# EAGLE library part SN75176B (library icmi-ics)
SN75176B / MAX485 RS-485/RS-422 Transceiver Pin names R→ receiver output RE→ receiver output enable DE→ driver output enable D→ driver input enable A→ noninverting receiver input and noninverting driver output B→ inverting receiver input and inverting driver output
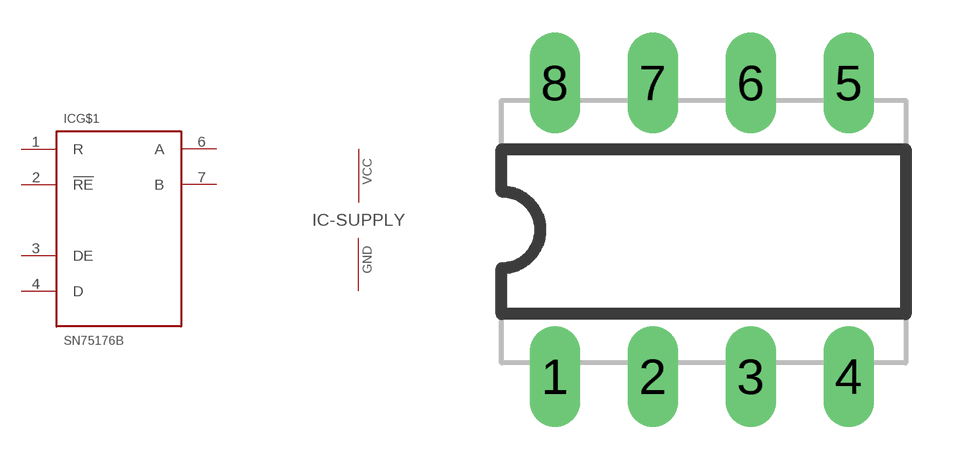
[diagram p5: symbol with the pads of DIP-8; footprint DIP-8]

Designator prefix IC; gates G$1=SN75176B -SUPPLY=1PWR_1GND

## SN75176B-DIP8  [DIP-8]
1  G$1:R
2  G$1:!RE
3  G$1:DE
4  G$1:D
5  -SUPPLY:GND  pwr
6  G$1:A
7  G$1:B
8  -SUPPLY:VCC  pwr

## Footprint DIP-8 (pad centres in mm)
DIP-8 throughole package
drill 0.8 long: 1 -3.81,-3.81; 2 -1.27,-3.81; 3 1.27,-3.81; 4 3.81,-3.81; 5 3.81,3.81; 6 1.27,3.81; 7 -1.27,3.81; 8 -3.81,3.81